# EAGLE library part TPS7B8650BQDDARQ1 (library TPS7B8650BQDDARQ1)
LDO Voltage Regulators Automotive 500-mA, 40-V, ultra-low-IQ, low-dropout (LDO) linear regulator with power good 8-SO PowerPAD -40 to 150 Source: Datasheet <https://www.ti.com/lit/gpn/tps7b86-q1?HQS=ti-null-null-sf-df-pf-sep-wwe&DCM=yes?hkey=EF798316E3902B6ED9A73243A3159BB0>
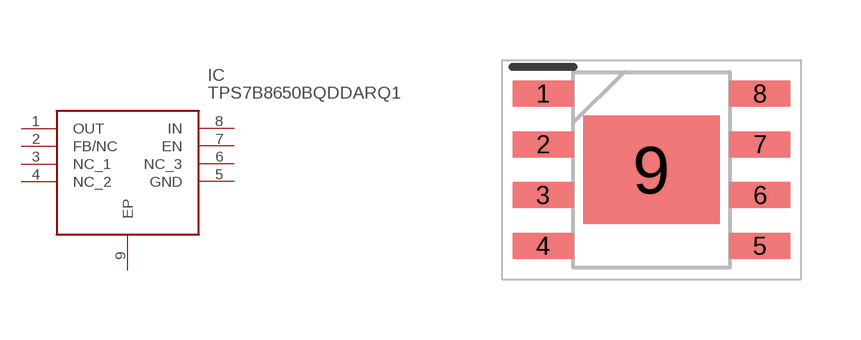
[diagram p0: symbol with the pads of SOIC127P600X170-9N; footprint SOIC127P600X170-9N]

Designator prefix IC

## TPS7B8650BQDDARQ1 (Description: LDO Voltage Regulators Automotive 500-mA, 40-V, ultra-low-IQ, low-dropout (LDO) linear regulator with power good 8-SO PowerPAD -40 to 150; Height: 1.7mm; Manufacturer_Name: Texas Instruments; Manufacturer_Part_Number: TPS7B8650BQDDARQ1; Mouser_Part_Number: 595-PS7B8650BQDDARQ1; Mouser_Price-Stock: https://www.mouser.co.uk/ProductDetail/Texas-Instruments/TPS7B8650BQDDARQ1?qs=ulEaXIWI0c8l2EN1AjsVkA%3D%3D)  [SOIC127P600X170-9N]
1  OUT
2  FB/NC
3  NC_1
4  NC_2
5  GND
6  NC_3
7  EN
8  IN
9  EP

## Footprint SOIC127P600X170-9N (pad centres in mm)
TPS7B8650BQDDARQ1
smd 1.525 x 0.65: 1 -2.712,1.905; 2 -2.712,0.635; 3 -2.712,-0.635; 4 -2.712,-1.905; 5 2.712,-1.905; 6 2.712,-0.635; 7 2.712,0.635; 8 2.712,1.905
smd 3.4 x 2.71: 9 0,0